# Altium schematic symbol library zigbee.SchLib: 1 symbol
Pins are listed as number, name and electrical type; pins without a type are passive.

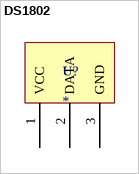
[diagram p0: symbol DS1802]

## DS1802
designator U?
pins: 1 VCC, 2 DATA, 3 GND